# Altium integrated library TI_Logic_Specialty_Logic.IntLib: 2504 symbols (part 25 of 81)
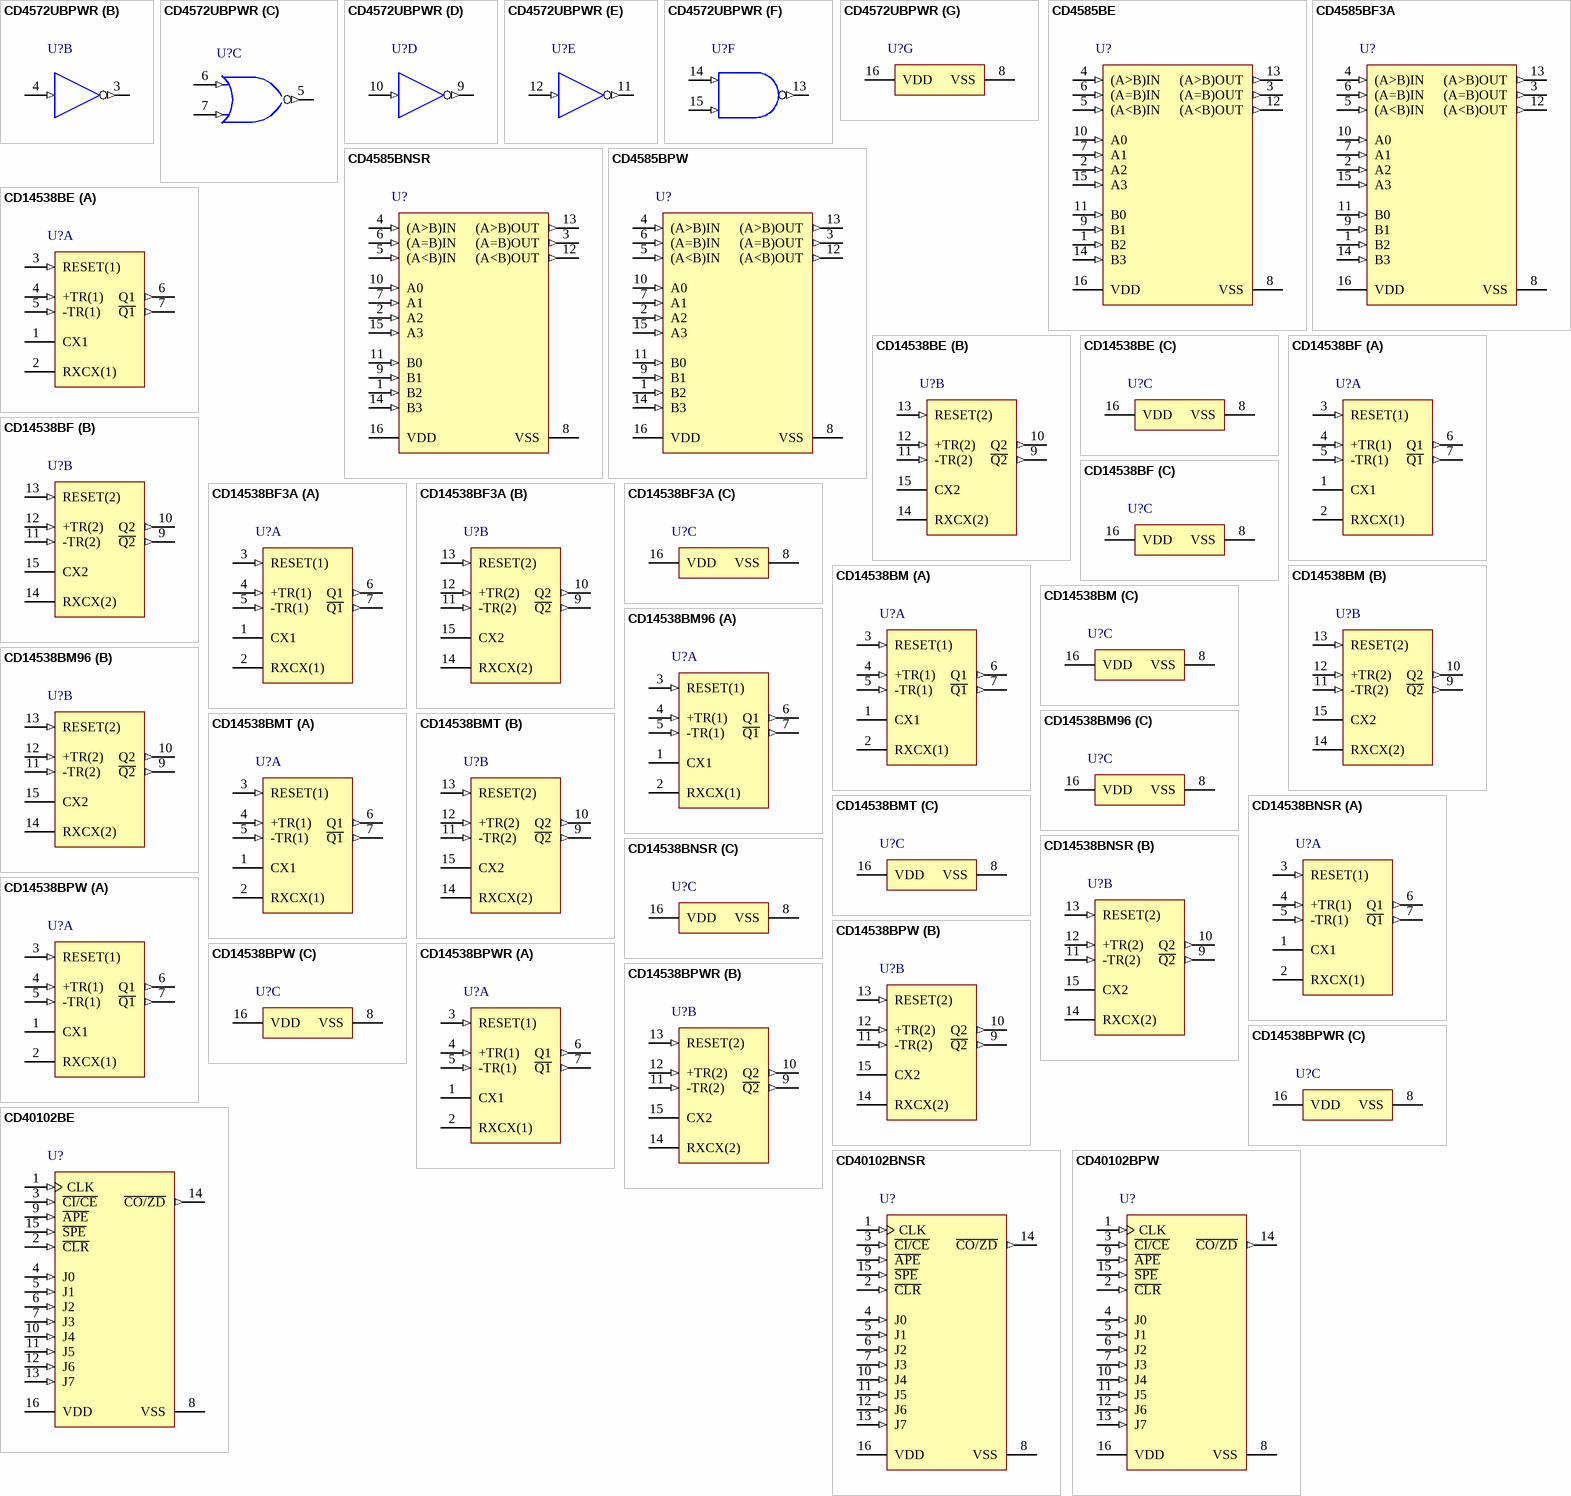
[diagram p128: symbols CD4572UBPWR to CD40102BPW]

## CD4585BF3A
designator U?
4-Bit Magnitude Comparators, J0016A, TUBE; Generic Part Number: CD4585B; Manufacturer: Texas Instruments; PartNumber: CD4585BF3A; VCC(Max)(V): 18; VCC(Min)(V): 3; Output Type: CMOS; ICC @ Nom Voltage(Max)(mA): 0.3; Bits(#): 4; F @ Nom Voltage(Max)(Mhz): 8; Rating: Military; Technology Family: CD4000; Voltage(Nom)(V): 10; Output Drive (IOL/IOH)(Max)(mA): 4/-4; tpd @ Nom Voltage(Max)(ns): 250; DatasheetVersion: SCHS091B; PackageReference: J0016A; Input Type: CMOS; Operating Temperature Range(C): -55 to 125; ComponentLink1Description: Manufacturer URL; ComponentLink1URL: http://www.ti.com/; ComponentLink2Description: Datasheet; ComponentLink2URL: http://www.ti.com/lit/ds/symlink/cd4585b.pdf
footprint J0016A (DIP, 16-Leads, Body 21.35x7.2mm, Pitch 2.54mm)
pins: 1 B2 (in), 2 A2 (in), 3 (A=B)OUT (out), 4 (A>B)IN (in), 5 (A<B)IN (in), 6 (A=B)IN (in), 7 A1 (in), 8 VSS (power), 9 B1 (in), 10 A0 (in), 11 B0 (in), 12 (A<B)OUT (out), 13 (A>B)OUT (out), 14 B3 (in), 15 A3 (in), 16 VDD (power)

## CD4585BNSR
designator U?
4-Bit Magnitude Comparators, NS0016A, LARGE T&R; Generic Part Number: CD4585B; Manufacturer: Texas Instruments; PartNumber: CD4585BNSR; VCC(Max)(V): 18; VCC(Min)(V): 3; Output Type: CMOS; ICC @ Nom Voltage(Max)(mA): 0.3; Bits(#): 4; F @ Nom Voltage(Max)(Mhz): 8; Rating: Military; Technology Family: CD4000; Voltage(Nom)(V): 10; Output Drive (IOL/IOH)(Max)(mA): 4/-4; tpd @ Nom Voltage(Max)(ns): 250; DatasheetVersion: SCHS091B; PackageReference: NS0016A; Supplier 1: Mouser; Supplier Part Number 1: 595-CD4585BNSR; Supplier 2: Digi-Key; Supplier Part Number 2: 296-29114-2-ND; Supplier 3: Digi-Key; Supplier Part Number 3: 296-29114-1-ND; Supplier 4: Digi-Key; Supplier Part Number 4: 296-29114-6-ND; Input Type: CMOS; Operating Temperature Range(C): -55 to 125; ComponentLink1Description: Manufacturer URL; ComponentLink1URL: http://www.ti.com/; ComponentLink2Description: Datasheet; ComponentLink2URL: http://www.ti.com/lit/ds/symlink/cd4585b.pdf
footprint NS0016A_N (SOIC,16-Leads,Body 10.5x5.6mm,Pitch 1.27mm,IPC Medium Density)
footprint NS0016A_M (SOIC,16-Leads,Body 10.5x5.6mm,Pitch 1.27mm,IPC Low Density)
footprint NS0016A_L (SOIC,16-Leads,Body 10.5x5.6mm,Pitch 1.27mm,IPC High Density)
pins: 1 B2 (in), 2 A2 (in), 3 (A=B)OUT (out), 4 (A>B)IN (in), 5 (A<B)IN (in), 6 (A=B)IN (in), 7 A1 (in), 8 VSS (power), 9 B1 (in), 10 A0 (in), 11 B0 (in), 12 (A<B)OUT (out), 13 (A>B)OUT (out), 14 B3 (in), 15 A3 (in), 16 VDD (power)

## CD4585BPW
designator U?
4-Bit Magnitude Comparators, PW0016A, TUBE; Generic Part Number: CD4585B; Manufacturer: Texas Instruments; PartNumber: CD4585BPW; VCC(Max)(V): 18; VCC(Min)(V): 3; Output Type: CMOS; ICC @ Nom Voltage(Max)(mA): 0.3; Bits(#): 4; F @ Nom Voltage(Max)(Mhz): 8; Rating: Military; Technology Family: CD4000; Voltage(Nom)(V): 10; Output Drive (IOL/IOH)(Max)(mA): 4/-4; tpd @ Nom Voltage(Max)(ns): 250; DatasheetVersion: SCHS091B; PackageReference: PW0016A; Supplier 1: Mouser; Supplier Part Number 1: 595-CD4585BPW; Supplier 2: Digi-Key; Supplier Part Number 2: 296-32939-5-ND; Input Type: CMOS; Operating Temperature Range(C): -55 to 125; ComponentLink1Description: Manufacturer URL; ComponentLink1URL: http://www.ti.com/; ComponentLink2Description: Datasheet; ComponentLink2URL: http://www.ti.com/lit/ds/symlink/cd4585b.pdf
footprint PW0016A_N (SOP, 16-Leads, Body 5.1x4.5mm, Pitch 0.65mm, IPC Medium Density)
footprint PW0016A_M (SOP, 16-Leads, Body 5.1x4.5mm, Pitch 0.65mm, IPC Low Density)
footprint PW0016A_L (SOP, 16-Leads, Body 5.1x4.5mm, Pitch 0.65mm, IPC High Density)
pins: 1 B2 (in), 2 A2 (in), 3 (A=B)OUT (out), 4 (A>B)IN (in), 5 (A<B)IN (in), 6 (A=B)IN (in), 7 A1 (in), 8 VSS (power), 9 B1 (in), 10 A0 (in), 11 B0 (in), 12 (A<B)OUT (out), 13 (A>B)OUT (out), 14 B3 (in), 15 A3 (in), 16 VDD (power)

## CD14538BE
designator U?
CMOS Dual Precision Monostable Multivibrator (125 C Operation), N0016A, TUBE; Generic Part Number: CD14538B; Manufacturer: Texas Instruments; PartNumber: CD14538BE; VCC(Max)(V): 18; VCC(Min)(V): 3; ICC @ Nom Voltage(Max)(mA): 0.3; Bits(#): 2; F @ Nom Voltage(Max)(Mhz): 8; Rating: Military; Voltage(Nom)(V): 10; Schmitt Trigger: No; Output Drive (IOL/IOH)(Max)(mA): 4/-4; tpd @ Nom Voltage(Max)(ns): 300; DatasheetVersion: SCHS093C; PackageReference: N0016A; Supplier 1: Mouser; Supplier Part Number 1: 595-CD14538BE; Supplier 2: Digi-Key; Supplier Part Number 2: 296-14074-5-ND; Output Type: CMOS; Input Type: CMOS; Operating Temperature Range(C): -55 to 125; Code_JEDEC: MS-001; ComponentLink1Description: Manufacturer URL; ComponentLink1URL: http://www.ti.com/; ComponentLink2Description: Datasheet; ComponentLink2URL: http://www.ti.com/lit/ds/symlink/cd14538b.pdf; ComponentLink3Description: Package Specification; ComponentLink3URL: http://www.ti.com/lit/ml/mpdi002c/mpdi002c.pdf
footprint N0016A (DIP, 16-Leads, Body 19.7x6.6mm, Pitch 2.54mm)
part A pins: 1 CX1, 2 RXCX(1), 3 RESET(1) (in), 4 +TR(1) (in), 5 -TR(1) (in), 6 Q1 (out), 7 ~{Q1} (out)
part B pins: 9 ~{Q2} (out), 10 Q2 (out), 11 -TR(2) (in), 12 +TR(2) (in), 13 RESET(2) (in), 14 RXCX(2), 15 CX2
part C pins: 8 VSS (power), 16 VDD (power)

## CD14538BF
designator U?
CMOS Dual Precision Monostable Multivibrator (125 C Operation), J0016A, TUBE; Generic Part Number: CD14538B; Manufacturer: Texas Instruments; PartNumber: CD14538BF; VCC(Max)(V): 18; VCC(Min)(V): 3; ICC @ Nom Voltage(Max)(mA): 0.3; Bits(#): 2; F @ Nom Voltage(Max)(Mhz): 8; Rating: Military; Voltage(Nom)(V): 10; Schmitt Trigger: No; Output Drive (IOL/IOH)(Max)(mA): 4/-4; tpd @ Nom Voltage(Max)(ns): 300; DatasheetVersion: SCHS093C; PackageReference: J0016A; Output Type: CMOS; Input Type: CMOS; Operating Temperature Range(C): -55 to 125; ComponentLink1Description: Manufacturer URL; ComponentLink1URL: http://www.ti.com/; ComponentLink2Description: Datasheet; ComponentLink2URL: http://www.ti.com/lit/ds/symlink/cd14538b.pdf; ComponentLink3Description: Package Specification; ComponentLink3URL: http://www.ti.com/lit/ml/mcer002d/mcer002d.pdf
footprint J0016A (DIP, 16-Leads, Body 21.35x7.2mm, Pitch 2.54mm)
part A pins: 1 CX1, 2 RXCX(1), 3 RESET(1) (in), 4 +TR(1) (in), 5 -TR(1) (in), 6 Q1 (out), 7 ~{Q1} (out)
part B pins: 9 ~{Q2} (out), 10 Q2 (out), 11 -TR(2) (in), 12 +TR(2) (in), 13 RESET(2) (in), 14 RXCX(2), 15 CX2
part C pins: 8 VSS (power), 16 VDD (power)

## CD14538BF3A
designator U?
CMOS Dual Precision Monostable Multivibrator (125 C Operation), J0016A, TUBE; Generic Part Number: CD14538B; Manufacturer: Texas Instruments; PartNumber: CD14538BF3A; VCC(Max)(V): 18; VCC(Min)(V): 3; ICC @ Nom Voltage(Max)(mA): 0.3; Bits(#): 2; F @ Nom Voltage(Max)(Mhz): 8; Rating: Military; Voltage(Nom)(V): 10; Schmitt Trigger: No; Output Drive (IOL/IOH)(Max)(mA): 4/-4; tpd @ Nom Voltage(Max)(ns): 300; DatasheetVersion: SCHS093C; PackageReference: J0016A; Output Type: CMOS; Input Type: CMOS; Operating Temperature Range(C): -55 to 125; ComponentLink1Description: Manufacturer URL; ComponentLink1URL: http://www.ti.com/; ComponentLink2Description: Datasheet; ComponentLink2URL: http://www.ti.com/lit/ds/symlink/cd14538b.pdf; ComponentLink3Description: Package Specification; ComponentLink3URL: http://www.ti.com/lit/ml/mcer002d/mcer002d.pdf
footprint J0016A (DIP, 16-Leads, Body 21.35x7.2mm, Pitch 2.54mm)
part A pins: 1 CX1, 2 RXCX(1), 3 RESET(1) (in), 4 +TR(1) (in), 5 -TR(1) (in), 6 Q1 (out), 7 ~{Q1} (out)
part B pins: 9 ~{Q2} (out), 10 Q2 (out), 11 -TR(2) (in), 12 +TR(2) (in), 13 RESET(2) (in), 14 RXCX(2), 15 CX2
part C pins: 8 VSS (power), 16 VDD (power)

## CD14538BM
designator U?
CMOS Dual Precision Monostable Multivibrator (125 C Operation), D0016A, TUBE; Generic Part Number: CD14538B; Manufacturer: Texas Instruments; PartNumber: CD14538BM; VCC(Max)(V): 18; VCC(Min)(V): 3; ICC @ Nom Voltage(Max)(mA): 0.3; Bits(#): 2; F @ Nom Voltage(Max)(Mhz): 8; Rating: Military; Voltage(Nom)(V): 10; Schmitt Trigger: No; Output Drive (IOL/IOH)(Max)(mA): 4/-4; tpd @ Nom Voltage(Max)(ns): 300; DatasheetVersion: SCHS093C; PackageReference: D0016A; Supplier 1: Mouser; Supplier Part Number 1: 595-CD14538BM; Supplier 2: Digi-Key; Supplier Part Number 2: 296-32849-5-ND; Output Type: CMOS; Input Type: CMOS; Operating Temperature Range(C): -55 to 125; Code_JEDEC: MS-012 variation AC; ComponentLink1Description: Manufacturer URL; ComponentLink1URL: http://www.ti.com/; ComponentLink2Description: Datasheet; ComponentLink2URL: http://www.ti.com/lit/ds/symlink/cd14538b.pdf; ComponentLink3Description: Package Specification; ComponentLink3URL: http://www.ti.com/lit/ml/mpds178g/mpds178g.pdf
footprint D0016A_N (SOIC, 16-Leads, Body 10x4mm, Pitch 1.27mm, IPC Medium Density)
footprint D0016A_M (SOIC, 16-Leads, Body 10x4mm, Pitch 1.27mm, IPC Low Density)
footprint D0016A_L (SOIC, 16-Leads, Body 10x4mm, Pitch 1.27mm, IPC High Density)
part A pins: 1 CX1, 2 RXCX(1), 3 RESET(1) (in), 4 +TR(1) (in), 5 -TR(1) (in), 6 Q1 (out), 7 ~{Q1} (out)
part B pins: 9 ~{Q2} (out), 10 Q2 (out), 11 -TR(2) (in), 12 +TR(2) (in), 13 RESET(2) (in), 14 RXCX(2), 15 CX2
part C pins: 8 VSS (power), 16 VDD (power)

## CD14538BM96
designator U?
CMOS Dual Precision Monostable Multivibrator (125 C Operation), D0016A, LARGE T&R; Generic Part Number: CD14538B; Manufacturer: Texas Instruments; PartNumber: CD14538BM96; VCC(Max)(V): 18; VCC(Min)(V): 3; ICC @ Nom Voltage(Max)(mA): 0.3; Bits(#): 2; F @ Nom Voltage(Max)(Mhz): 8; Rating: Military; Voltage(Nom)(V): 10; Schmitt Trigger: No; Output Drive (IOL/IOH)(Max)(mA): 4/-4; tpd @ Nom Voltage(Max)(ns): 300; DatasheetVersion: SCHS093C; PackageReference: D0016A; Supplier 1: Mouser; Supplier Part Number 1: 595-CD14538BM96; Supplier 2: Digi-Key; Supplier Part Number 2: 296-31477-2-ND; Supplier 3: Digi-Key; Supplier Part Number 3: 296-31477-1-ND; Supplier 4: Digi-Key; Supplier Part Number 4: 296-31477-6-ND; Output Type: CMOS; Input Type: CMOS; Operating Temperature Range(C): -55 to 125; Code_JEDEC: MS-012 variation AC; ComponentLink1Description: Manufacturer URL; ComponentLink1URL: http://www.ti.com/; ComponentLink2Description: Datasheet; ComponentLink2URL: http://www.ti.com/lit/ds/symlink/cd14538b.pdf; ComponentLink3Description: Package Specification; ComponentLink3URL: http://www.ti.com/lit/ml/mpds178g/mpds178g.pdf
footprint D0016A_N (SOIC, 16-Leads, Body 10x4mm, Pitch 1.27mm, IPC Medium Density)
footprint D0016A_M (SOIC, 16-Leads, Body 10x4mm, Pitch 1.27mm, IPC Low Density)
footprint D0016A_L (SOIC, 16-Leads, Body 10x4mm, Pitch 1.27mm, IPC High Density)
part A pins: 1 CX1, 2 RXCX(1), 3 RESET(1) (in), 4 +TR(1) (in), 5 -TR(1) (in), 6 Q1 (out), 7 ~{Q1} (out)
part B pins: 9 ~{Q2} (out), 10 Q2 (out), 11 -TR(2) (in), 12 +TR(2) (in), 13 RESET(2) (in), 14 RXCX(2), 15 CX2
part C pins: 8 VSS (power), 16 VDD (power)

## CD14538BMT
designator U?
CMOS Dual Precision Monostable Multivibrator (125 C Operation), D0016A, SMALL T&R; Generic Part Number: CD14538B; Manufacturer: Texas Instruments; PartNumber: CD14538BMT; VCC(Max)(V): 18; VCC(Min)(V): 3; ICC @ Nom Voltage(Max)(mA): 0.3; Bits(#): 2; F @ Nom Voltage(Max)(Mhz): 8; Rating: Military; Voltage(Nom)(V): 10; Schmitt Trigger: No; Output Drive (IOL/IOH)(Max)(mA): 4/-4; tpd @ Nom Voltage(Max)(ns): 300; DatasheetVersion: SCHS093C; PackageReference: D0016A; Supplier 1: Mouser; Supplier Part Number 1: 595-CD14538BMT; Supplier 2: Digi-Key; Supplier Part Number 2: CD14538BMT-ND; Output Type: CMOS; Input Type: CMOS; Operating Temperature Range(C): -55 to 125; Code_JEDEC: MS-012 variation AC; ComponentLink1Description: Manufacturer URL; ComponentLink1URL: http://www.ti.com/; ComponentLink2Description: Datasheet; ComponentLink2URL: http://www.ti.com/lit/ds/symlink/cd14538b.pdf; ComponentLink3Description: Package Specification; ComponentLink3URL: http://www.ti.com/lit/ml/mpds178g/mpds178g.pdf
footprint D0016A_N (SOIC, 16-Leads, Body 10x4mm, Pitch 1.27mm, IPC Medium Density)
footprint D0016A_M (SOIC, 16-Leads, Body 10x4mm, Pitch 1.27mm, IPC Low Density)
footprint D0016A_L (SOIC, 16-Leads, Body 10x4mm, Pitch 1.27mm, IPC High Density)
part A pins: 1 CX1, 2 RXCX(1), 3 RESET(1) (in), 4 +TR(1) (in), 5 -TR(1) (in), 6 Q1 (out), 7 ~{Q1} (out)
part B pins: 9 ~{Q2} (out), 10 Q2 (out), 11 -TR(2) (in), 12 +TR(2) (in), 13 RESET(2) (in), 14 RXCX(2), 15 CX2
part C pins: 8 VSS (power), 16 VDD (power)

## CD14538BNSR
designator U?
CMOS Dual Precision Monostable Multivibrator (125 C Operation), NS0016A, LARGE T&R; Generic Part Number: CD14538B; Manufacturer: Texas Instruments; PartNumber: CD14538BNSR; VCC(Max)(V): 18; VCC(Min)(V): 3; ICC @ Nom Voltage(Max)(mA): 0.3; Bits(#): 2; F @ Nom Voltage(Max)(Mhz): 8; Rating: Military; Voltage(Nom)(V): 10; Schmitt Trigger: No; Output Drive (IOL/IOH)(Max)(mA): 4/-4; tpd @ Nom Voltage(Max)(ns): 300; DatasheetVersion: SCHS093C; PackageReference: NS0016A; Supplier 1: Mouser; Supplier Part Number 1: 595-CD14538BNSR; Supplier 2: Digi-Key; Supplier Part Number 2: 296-14075-2-ND; Supplier 3: Digi-Key; Supplier Part Number 3: 296-14075-1-ND; Supplier 4: Digi-Key; Supplier Part Number 4: 296-14075-6-ND; Output Type: CMOS; Input Type: CMOS; Operating Temperature Range(C): -55 to 125; ComponentLink1Description: Manufacturer URL; ComponentLink1URL: http://www.ti.com/; ComponentLink2Description: Datasheet; ComponentLink2URL: http://www.ti.com/lit/ds/symlink/cd14538b.pdf; ComponentLink3Description: Package Specification; ComponentLink3URL: http://www.ti.com/lit/ml/msop002a/msop002a.pdf
footprint NS0016A_N (SOIC,16-Leads,Body 10.5x5.6mm,Pitch 1.27mm,IPC Medium Density)
footprint NS0016A_M (SOIC,16-Leads,Body 10.5x5.6mm,Pitch 1.27mm,IPC Low Density)
footprint NS0016A_L (SOIC,16-Leads,Body 10.5x5.6mm,Pitch 1.27mm,IPC High Density)
part A pins: 1 CX1, 2 RXCX(1), 3 RESET(1) (in), 4 +TR(1) (in), 5 -TR(1) (in), 6 Q1 (out), 7 ~{Q1} (out)
part B pins: 9 ~{Q2} (out), 10 Q2 (out), 11 -TR(2) (in), 12 +TR(2) (in), 13 RESET(2) (in), 14 RXCX(2), 15 CX2
part C pins: 8 VSS (power), 16 VDD (power)

## CD14538BPW
designator U?
CMOS Dual Precision Monostable Multivibrator (125 C Operation), PW0016A, TUBE; Generic Part Number: CD14538B; Manufacturer: Texas Instruments; PartNumber: CD14538BPW; VCC(Max)(V): 18; VCC(Min)(V): 3; ICC @ Nom Voltage(Max)(mA): 0.3; Bits(#): 2; F @ Nom Voltage(Max)(Mhz): 8; Rating: Military; Voltage(Nom)(V): 10; Schmitt Trigger: No; Output Drive (IOL/IOH)(Max)(mA): 4/-4; tpd @ Nom Voltage(Max)(ns): 300; DatasheetVersion: SCHS093C; PackageReference: PW0016A; Supplier 1: Mouser; Supplier Part Number 1: 595-CD14538BPW; Supplier 2: Digi-Key; Supplier Part Number 2: 296-32850-5-ND; Output Type: CMOS; Input Type: CMOS; Operating Temperature Range(C): -55 to 125; Code_JEDEC: MO-153; ComponentLink1Description: Manufacturer URL; ComponentLink1URL: http://www.ti.com/; ComponentLink2Description: Datasheet; ComponentLink2URL: http://www.ti.com/lit/ds/symlink/cd14538b.pdf; ComponentLink3Description: Package Specification; ComponentLink3URL: http://www.ti.com/lit/ml/mpds361/mpds361.pdf
footprint PW0016A_N (SOP, 16-Leads, Body 5.1x4.5mm, Pitch 0.65mm, IPC Medium Density)
footprint PW0016A_M (SOP, 16-Leads, Body 5.1x4.5mm, Pitch 0.65mm, IPC Low Density)
footprint PW0016A_L (SOP, 16-Leads, Body 5.1x4.5mm, Pitch 0.65mm, IPC High Density)
part A pins: 1 CX1, 2 RXCX(1), 3 RESET(1) (in), 4 +TR(1) (in), 5 -TR(1) (in), 6 Q1 (out), 7 ~{Q1} (out)
part B pins: 9 ~{Q2} (out), 10 Q2 (out), 11 -TR(2) (in), 12 +TR(2) (in), 13 RESET(2) (in), 14 RXCX(2), 15 CX2
part C pins: 8 VSS (power), 16 VDD (power)

## CD14538BPWR
designator U?
CMOS Dual Precision Monostable Multivibrator (125 C Operation), PW0016A, LARGE T&R; Generic Part Number: CD14538B; Manufacturer: Texas Instruments; PartNumber: CD14538BPWR; VCC(Max)(V): 18; VCC(Min)(V): 3; ICC @ Nom Voltage(Max)(mA): 0.3; Bits(#): 2; F @ Nom Voltage(Max)(Mhz): 8; Rating: Military; Voltage(Nom)(V): 10; Schmitt Trigger: No; Output Drive (IOL/IOH)(Max)(mA): 4/-4; tpd @ Nom Voltage(Max)(ns): 300; DatasheetVersion: SCHS093C; PackageReference: PW0016A; Supplier 1: Mouser; Supplier Part Number 1: 595-CD14538BPWR; Supplier 2: Digi-Key; Supplier Part Number 2: 296-12018-2-ND; Supplier 3: Digi-Key; Supplier Part Number 3: 296-12018-1-ND; Supplier 4: Digi-Key; Supplier Part Number 4: 296-12018-6-ND; Output Type: CMOS; Input Type: CMOS; Operating Temperature Range(C): -55 to 125; Code_JEDEC: MO-153; ComponentLink1Description: Manufacturer URL; ComponentLink1URL: http://www.ti.com/; ComponentLink2Description: Datasheet; ComponentLink2URL: http://www.ti.com/lit/ds/symlink/cd14538b.pdf; ComponentLink3Description: Package Specification; ComponentLink3URL: http://www.ti.com/lit/ml/mpds361/mpds361.pdf
footprint PW0016A_N (SOP, 16-Leads, Body 5.1x4.5mm, Pitch 0.65mm, IPC Medium Density)
footprint PW0016A_M (SOP, 16-Leads, Body 5.1x4.5mm, Pitch 0.65mm, IPC Low Density)
footprint PW0016A_L (SOP, 16-Leads, Body 5.1x4.5mm, Pitch 0.65mm, IPC High Density)
part A pins: 1 CX1, 2 RXCX(1), 3 RESET(1) (in), 4 +TR(1) (in), 5 -TR(1) (in), 6 Q1 (out), 7 ~{Q1} (out)
part B pins: 9 ~{Q2} (out), 10 Q2 (out), 11 -TR(2) (in), 12 +TR(2) (in), 13 RESET(2) (in), 14 RXCX(2), 15 CX2
part C pins: 8 VSS (power), 16 VDD (power)

## CD40102BE
designator U?
CMOS 8-Stage Presettable 2-Decade BCD Synchronous Down Counter, N0016A, TUBE; Generic Part Number: CD40102B; Manufacturer: Texas Instruments; PartNumber: CD40102BE; VCC(Max)(V): 18; VCC(Min)(V): 3; Inputs: 1; ICC @ Nom Voltage(Max)(mA): 0.03; F @ Nom Voltage(Max)(Mhz): 8; Rating: Catalog; Technology Family: CD4000; Voltage(Nom)(V): 5,10,15; Schmitt Trigger: No; Output Drive (IOL/IOH)(Max)(mA): 1.5/-1.5; tpd @ Nom Voltage(Max)(ns): 260; DatasheetVersion: SCHS095B; PackageReference: N0016A; Supplier 1: Mouser; Supplier Part Number 1: 595-CD40102BE; Supplier 2: Digi-Key; Supplier Part Number 2: 296-14079-5-ND; Output Type: CMOS; Function: Counter; Input Type: CMOS; Bits(#): 1; Operating Temperature Range(C): -55 to 125; Type: Decade; Code_JEDEC: MS-001; ComponentLink1Description: Manufacturer URL; ComponentLink1URL: http://www.ti.com/; ComponentLink2Description: Datasheet; ComponentLink2URL: http://www.ti.com/lit/ds/symlink/cd40102b.pdf; ComponentLink3Description: Package Specification; ComponentLink3URL: http://www.ti.com/lit/ml/mpdi002c/mpdi002c.pdf
footprint N0016A (DIP, 16-Leads, Body 19.7x6.6mm, Pitch 2.54mm)
pins: 1 CLK (in), 2 ~{CLR} (in), 3 ~{CI/CE} (in), 4 J0 (in), 5 J1 (in), 6 J2 (in), 7 J3 (in), 8 VSS (power), 9 ~{APE} (in), 10 J4 (in), 11 J5 (in), 12 J6 (in), 13 J7 (in), 14 ~{CO/ZD} (out), 15 ~{SPE} (in), 16 VDD (power)

## CD40102BNSR
designator U?
CMOS 8-Stage Presettable 2-Decade BCD Synchronous Down Counter, NS0016A, LARGE T&R; Generic Part Number: CD40102B; Manufacturer: Texas Instruments; PartNumber: CD40102BNSR; VCC(Max)(V): 18; VCC(Min)(V): 3; Inputs: 1; ICC @ Nom Voltage(Max)(mA): 0.03; F @ Nom Voltage(Max)(Mhz): 8; Rating: Catalog; Technology Family: CD4000; Voltage(Nom)(V): 5,10,15; Schmitt Trigger: No; Output Drive (IOL/IOH)(Max)(mA): 1.5/-1.5; tpd @ Nom Voltage(Max)(ns): 260; DatasheetVersion: SCHS095B; PackageReference: NS0016A; Supplier 1: Mouser; Supplier Part Number 1: 595-CD40102BNSR; Supplier 2: Digi-Key; Supplier Part Number 2: CD40102BNSR-ND; Output Type: CMOS; Function: Counter; Input Type: CMOS; Bits(#): 1; Operating Temperature Range(C): -55 to 125; Type: Decade; ComponentLink1Description: Manufacturer URL; ComponentLink1URL: http://www.ti.com/; ComponentLink2Description: Datasheet; ComponentLink2URL: http://www.ti.com/lit/ds/symlink/cd40102b.pdf; ComponentLink3Description: Package Specification; ComponentLink3URL: http://www.ti.com/lit/ml/msop002a/msop002a.pdf
footprint NS0016A_N (SOIC,16-Leads,Body 10.5x5.6mm,Pitch 1.27mm,IPC Medium Density)
footprint NS0016A_M (SOIC,16-Leads,Body 10.5x5.6mm,Pitch 1.27mm,IPC Low Density)
footprint NS0016A_L (SOIC,16-Leads,Body 10.5x5.6mm,Pitch 1.27mm,IPC High Density)
pins: 1 CLK (in), 2 ~{CLR} (in), 3 ~{CI/CE} (in), 4 J0 (in), 5 J1 (in), 6 J2 (in), 7 J3 (in), 8 VSS (power), 9 ~{APE} (in), 10 J4 (in), 11 J5 (in), 12 J6 (in), 13 J7 (in), 14 ~{CO/ZD} (out), 15 ~{SPE} (in), 16 VDD (power)

## CD40102BPW
designator U?
CMOS 8-Stage Presettable 2-Decade BCD Synchronous Down Counter, PW0016A, TUBE; Generic Part Number: CD40102B; Manufacturer: Texas Instruments; PartNumber: CD40102BPW; VCC(Max)(V): 18; VCC(Min)(V): 3; Inputs: 1; ICC @ Nom Voltage(Max)(mA): 0.03; F @ Nom Voltage(Max)(Mhz): 8; Rating: Catalog; Technology Family: CD4000; Voltage(Nom)(V): 5,10,15; Schmitt Trigger: No; Output Drive (IOL/IOH)(Max)(mA): 1.5/-1.5; tpd @ Nom Voltage(Max)(ns): 260; DatasheetVersion: SCHS095B; PackageReference: PW0016A; Supplier 1: Mouser; Supplier Part Number 1: 595-CD40102BPW; Supplier 2: Digi-Key; Supplier Part Number 2: 296-32856-5-ND; Output Type: CMOS; Function: Counter; Input Type: CMOS; Bits(#): 1; Operating Temperature Range(C): -55 to 125; Type: Decade; Code_JEDEC: MO-153; ComponentLink1Description: Manufacturer URL; ComponentLink1URL: http://www.ti.com/; ComponentLink2Description: Datasheet; ComponentLink2URL: http://www.ti.com/lit/ds/symlink/cd40102b.pdf; ComponentLink3Description: Package Specification; ComponentLink3URL: http://www.ti.com/lit/ml/mpds361/mpds361.pdf
footprint PW0016A_N (SOP, 16-Leads, Body 5.1x4.5mm, Pitch 0.65mm, IPC Medium Density)
footprint PW0016A_M (SOP, 16-Leads, Body 5.1x4.5mm, Pitch 0.65mm, IPC Low Density)
footprint PW0016A_L (SOP, 16-Leads, Body 5.1x4.5mm, Pitch 0.65mm, IPC High Density)
pins: 1 CLK (in), 2 ~{CLR} (in), 3 ~{CI/CE} (in), 4 J0 (in), 5 J1 (in), 6 J2 (in), 7 J3 (in), 8 VSS (power), 9 ~{APE} (in), 10 J4 (in), 11 J5 (in), 12 J6 (in), 13 J7 (in), 14 ~{CO/ZD} (out), 15 ~{SPE} (in), 16 VDD (power)

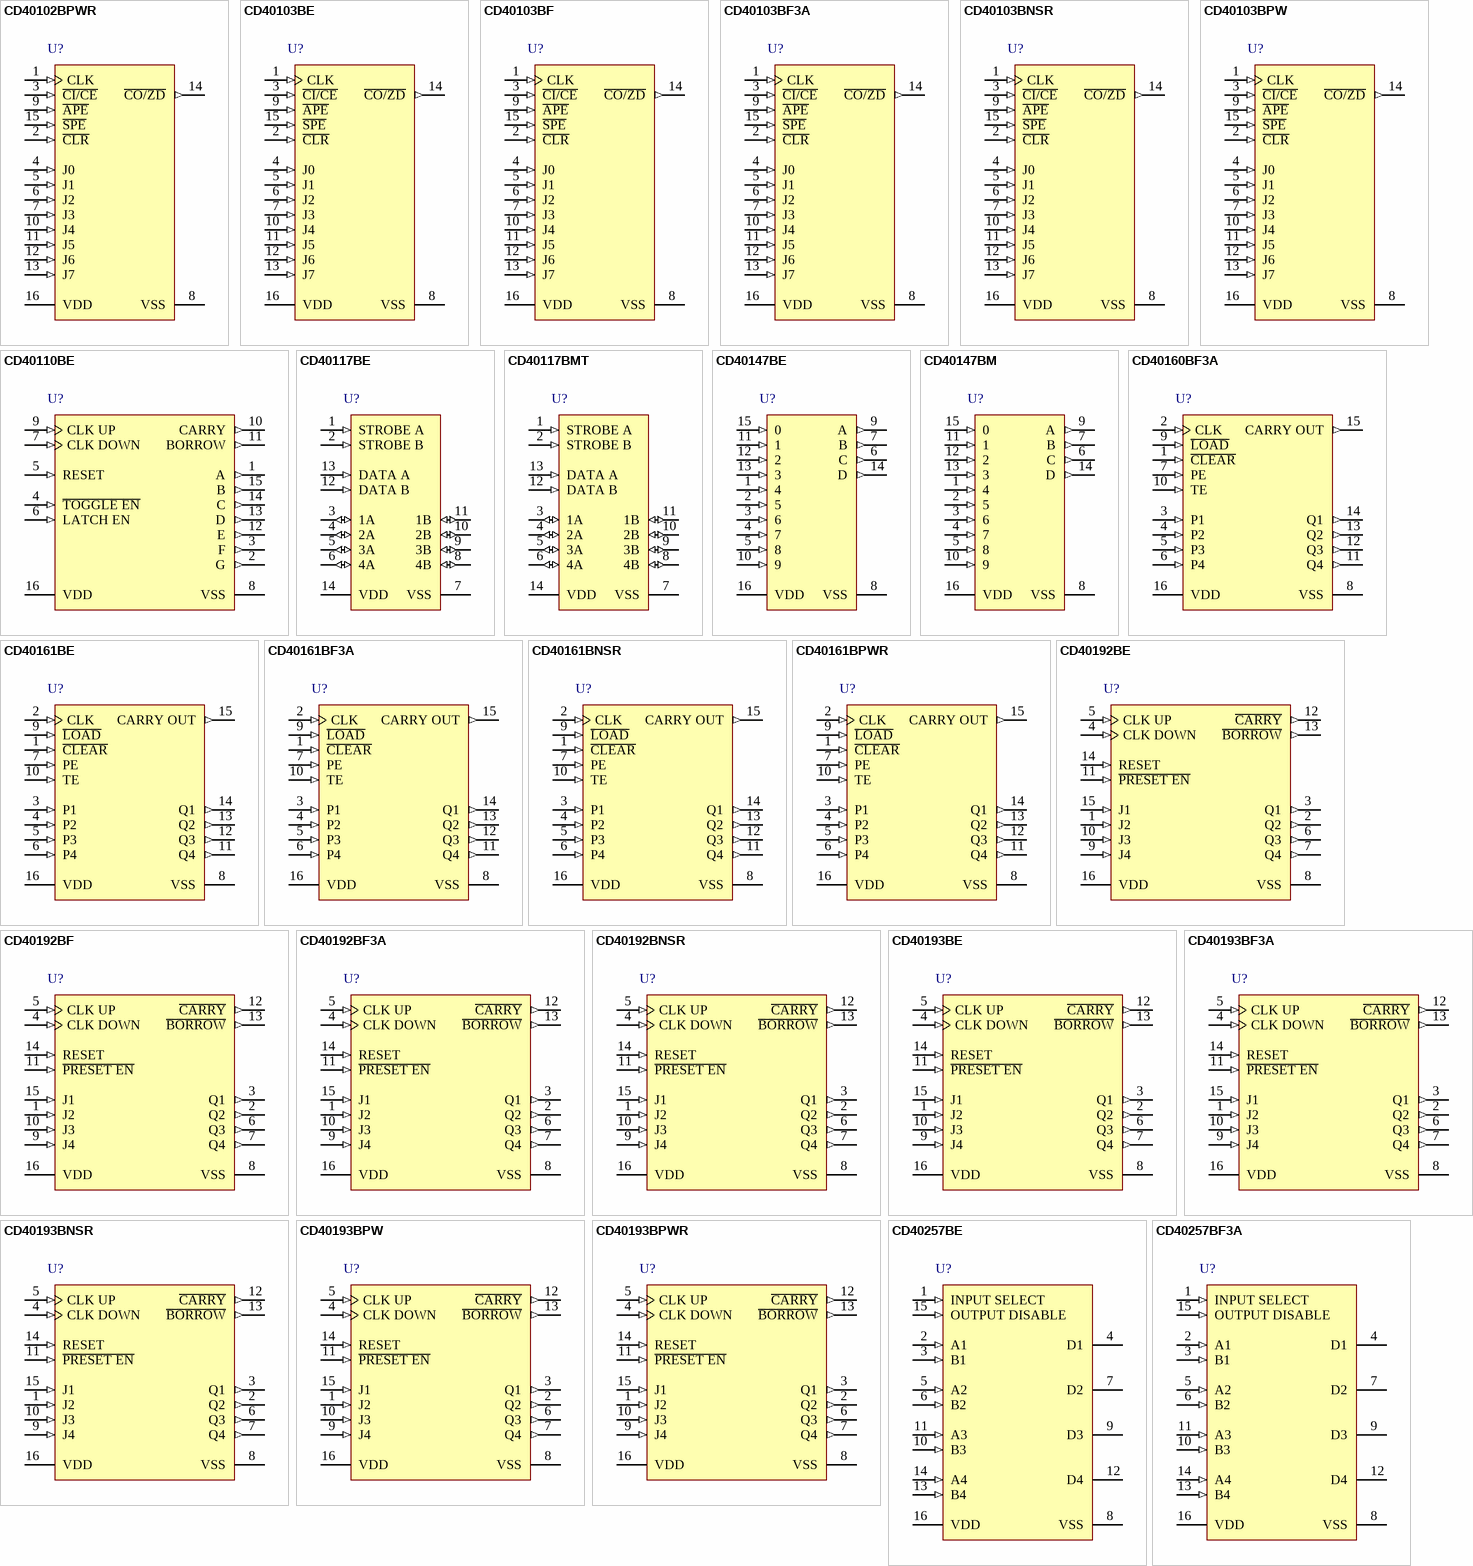
[diagram p34: symbols CD40102BPWR to CD40257BF3A]

## CD40102BPWR
designator U?
CMOS 8-Stage Presettable 2-Decade BCD Synchronous Down Counter, PW0016A, LARGE T&R; Generic Part Number: CD40102B; Manufacturer: Texas Instruments; PartNumber: CD40102BPWR; VCC(Max)(V): 18; VCC(Min)(V): 3; Inputs: 1; ICC @ Nom Voltage(Max)(mA): 0.03; F @ Nom Voltage(Max)(Mhz): 8; Rating: Catalog; Technology Family: CD4000; Voltage(Nom)(V): 5,10,15; Schmitt Trigger: No; Output Drive (IOL/IOH)(Max)(mA): 1.5/-1.5; tpd @ Nom Voltage(Max)(ns): 260; DatasheetVersion: SCHS095B; PackageReference: PW0016A; Supplier 1: Mouser; Supplier Part Number 1: 595-CD40102BPWR; Supplier 2: Digi-Key; Supplier Part Number 2: 296-14241-2-ND; Supplier 3: Digi-Key; Supplier Part Number 3: 296-14241-1-ND; Supplier 4: Digi-Key; Supplier Part Number 4: 296-14241-6-ND; Output Type: CMOS; Function: Counter; Input Type: CMOS; Bits(#): 1; Operating Temperature Range(C): -55 to 125; Type: Decade; Code_JEDEC: MO-153; ComponentLink1Description: Manufacturer URL; ComponentLink1URL: http://www.ti.com/; ComponentLink2Description: Datasheet; ComponentLink2URL: http://www.ti.com/lit/ds/symlink/cd40102b.pdf; ComponentLink3Description: Package Specification; ComponentLink3URL: http://www.ti.com/lit/ml/mpds361/mpds361.pdf
footprint PW0016A_N (SOP, 16-Leads, Body 5.1x4.5mm, Pitch 0.65mm, IPC Medium Density)
footprint PW0016A_M (SOP, 16-Leads, Body 5.1x4.5mm, Pitch 0.65mm, IPC Low Density)
footprint PW0016A_L (SOP, 16-Leads, Body 5.1x4.5mm, Pitch 0.65mm, IPC High Density)
pins: 1 CLK (in), 2 ~{CLR} (in), 3 ~{CI/CE} (in), 4 J0 (in), 5 J1 (in), 6 J2 (in), 7 J3 (in), 8 VSS (power), 9 ~{APE} (in), 10 J4 (in), 11 J5 (in), 12 J6 (in), 13 J7 (in), 14 ~{CO/ZD} (out), 15 ~{SPE} (in), 16 VDD (power)

## CD40103BE
designator U?
CMOS 8-Stage Presettable 8-Bit Binary Synchronous Down Counter, N0016A, TUBE; Generic Part Number: CD40103B; Manufacturer: Texas Instruments; PartNumber: CD40103BE; VCC(Max)(V): 18; VCC(Min)(V): 3; Inputs: 1; ICC @ Nom Voltage(Max)(mA): 0.03; F @ Nom Voltage(Max)(Mhz): 8; Rating: Catalog; Technology Family: CD4000; Voltage(Nom)(V): 5,10,15; Schmitt Trigger: No; Output Drive (IOL/IOH)(Max)(mA): 1.5/-1.5; tpd @ Nom Voltage(Max)(ns): 260; DatasheetVersion: SCHS095B; PackageReference: N0016A; Supplier 1: Mouser; Supplier Part Number 1: 595-CD40103BE; Supplier 2: Digi-Key; Supplier Part Number 2: 296-14080-5-ND; Output Type: CMOS; Function: Counter; Input Type: CMOS; Bits(#): 1; Operating Temperature Range(C): -55 to 125; Type: Binary; Code_JEDEC: MS-001; ComponentLink1Description: Manufacturer URL; ComponentLink1URL: http://www.ti.com/; ComponentLink2Description: Datasheet; ComponentLink2URL: http://www.ti.com/lit/ds/symlink/cd40103b.pdf; ComponentLink3Description: Package Specification; ComponentLink3URL: http://www.ti.com/lit/ml/mpdi002c/mpdi002c.pdf
footprint N0016A (DIP, 16-Leads, Body 19.7x6.6mm, Pitch 2.54mm)
pins: 1 CLK (in), 2 ~{CLR} (in), 3 ~{CI/CE} (in), 4 J0 (in), 5 J1 (in), 6 J2 (in), 7 J3 (in), 8 VSS (power), 9 ~{APE} (in), 10 J4 (in), 11 J5 (in), 12 J6 (in), 13 J7 (in), 14 ~{CO/ZD} (out), 15 ~{SPE} (in), 16 VDD (power)

## CD40103BF
designator U?
CMOS 8-Stage Presettable 8-Bit Binary Synchronous Down Counter, J0016A, TUBE; Generic Part Number: CD40103B-MIL; Manufacturer: Texas Instruments; PartNumber: CD40103BF; VCC(Max)(V): 18; VCC(Min)(V): 3; Inputs: 1; ICC @ Nom Voltage(Max)(mA): 0.03; F @ Nom Voltage(Max)(Mhz): 8; Rating: Military; Technology Family: CD4000; Voltage(Nom)(V): 10; Schmitt Trigger: No; Output Drive (IOL/IOH)(Max)(mA): 1.5/-1.5; tpd @ Nom Voltage(Max)(ns): 260; DatasheetVersion: SCHS095B; PackageReference: J0016A; Output Type: CMOS; Function: Counter; Input Type: CMOS; Bits(#): 1; Operating Temperature Range(C): -55 to 125; Type: Binary; ComponentLink1Description: Manufacturer URL; ComponentLink1URL: http://www.ti.com/; ComponentLink2Description: Datasheet; ComponentLink2URL: http://www.ti.com/lit/ds/symlink/cd40103b-mil.pdf; ComponentLink3Description: Package Specification; ComponentLink3URL: http://www.ti.com/lit/ml/mcer002d/mcer002d.pdf
footprint J0016A (DIP, 16-Leads, Body 21.35x7.2mm, Pitch 2.54mm)
pins: 1 CLK (in), 2 ~{CLR} (in), 3 ~{CI/CE} (in), 4 J0 (in), 5 J1 (in), 6 J2 (in), 7 J3 (in), 8 VSS (power), 9 ~{APE} (in), 10 J4 (in), 11 J5 (in), 12 J6 (in), 13 J7 (in), 14 ~{CO/ZD} (out), 15 ~{SPE} (in), 16 VDD (power)

## CD40103BF3A
designator U?
CMOS 8-Stage Presettable 8-Bit Binary Synchronous Down Counter, J0016A, TUBE; Generic Part Number: CD40103B-MIL; Manufacturer: Texas Instruments; PartNumber: CD40103BF3A; VCC(Max)(V): 18; VCC(Min)(V): 3; Inputs: 1; ICC @ Nom Voltage(Max)(mA): 0.03; F @ Nom Voltage(Max)(Mhz): 8; Rating: Military; Technology Family: CD4000; Voltage(Nom)(V): 10; Schmitt Trigger: No; Output Drive (IOL/IOH)(Max)(mA): 1.5/-1.5; tpd @ Nom Voltage(Max)(ns): 260; DatasheetVersion: SCHS095B; PackageReference: J0016A; Output Type: CMOS; Function: Counter; Input Type: CMOS; Bits(#): 1; Operating Temperature Range(C): -55 to 125; Type: Binary; ComponentLink1Description: Manufacturer URL; ComponentLink1URL: http://www.ti.com/; ComponentLink2Description: Datasheet; ComponentLink2URL: http://www.ti.com/lit/ds/symlink/cd40103b-mil.pdf; ComponentLink3Description: Package Specification; ComponentLink3URL: http://www.ti.com/lit/ml/mcer002d/mcer002d.pdf
footprint J0016A (DIP, 16-Leads, Body 21.35x7.2mm, Pitch 2.54mm)
pins: 1 CLK (in), 2 ~{CLR} (in), 3 ~{CI/CE} (in), 4 J0 (in), 5 J1 (in), 6 J2 (in), 7 J3 (in), 8 VSS (power), 9 ~{APE} (in), 10 J4 (in), 11 J5 (in), 12 J6 (in), 13 J7 (in), 14 ~{CO/ZD} (out), 15 ~{SPE} (in), 16 VDD (power)

## CD40103BNSR
designator U?
CMOS 8-Stage Presettable 8-Bit Binary Synchronous Down Counter, NS0016A, LARGE T&R; Generic Part Number: CD40103B; Manufacturer: Texas Instruments; PartNumber: CD40103BNSR; VCC(Max)(V): 18; VCC(Min)(V): 3; Inputs: 1; ICC @ Nom Voltage(Max)(mA): 0.03; F @ Nom Voltage(Max)(Mhz): 8; Rating: Catalog; Technology Family: CD4000; Voltage(Nom)(V): 5,10,15; Schmitt Trigger: No; Output Drive (IOL/IOH)(Max)(mA): 1.5/-1.5; tpd @ Nom Voltage(Max)(ns): 260; DatasheetVersion: SCHS095B; PackageReference: NS0016A; Supplier 1: Mouser; Supplier Part Number 1: 595-CD40103BNSR; Supplier 2: Digi-Key; Supplier Part Number 2: 296-29360-2-ND; Supplier 3: Digi-Key; Supplier Part Number 3: 296-29360-1-ND; Supplier 4: Digi-Key; Supplier Part Number 4: 296-29360-6-ND; Output Type: CMOS; Function: Counter; Input Type: CMOS; Bits(#): 1; Operating Temperature Range(C): -55 to 125; Type: Binary; ComponentLink1Description: Manufacturer URL; ComponentLink1URL: http://www.ti.com/; ComponentLink2Description: Datasheet; ComponentLink2URL: http://www.ti.com/lit/ds/symlink/cd40103b.pdf; ComponentLink3Description: Package Specification; ComponentLink3URL: http://www.ti.com/lit/ml/msop002a/msop002a.pdf
footprint NS0016A_N (SOIC,16-Leads,Body 10.5x5.6mm,Pitch 1.27mm,IPC Medium Density)
footprint NS0016A_M (SOIC,16-Leads,Body 10.5x5.6mm,Pitch 1.27mm,IPC Low Density)
footprint NS0016A_L (SOIC,16-Leads,Body 10.5x5.6mm,Pitch 1.27mm,IPC High Density)
pins: 1 CLK (in), 2 ~{CLR} (in), 3 ~{CI/CE} (in), 4 J0 (in), 5 J1 (in), 6 J2 (in), 7 J3 (in), 8 VSS (power), 9 ~{APE} (in), 10 J4 (in), 11 J5 (in), 12 J6 (in), 13 J7 (in), 14 ~{CO/ZD} (out), 15 ~{SPE} (in), 16 VDD (power)

## CD40103BPW
designator U?
CMOS 8-Stage Presettable 8-Bit Binary Synchronous Down Counter, PW0016A, TUBE; Generic Part Number: CD40103B; Manufacturer: Texas Instruments; PartNumber: CD40103BPW; VCC(Max)(V): 18; VCC(Min)(V): 3; Inputs: 1; ICC @ Nom Voltage(Max)(mA): 0.03; F @ Nom Voltage(Max)(Mhz): 8; Rating: Catalog; Technology Family: CD4000; Voltage(Nom)(V): 5,10,15; Schmitt Trigger: No; Output Drive (IOL/IOH)(Max)(mA): 1.5/-1.5; tpd @ Nom Voltage(Max)(ns): 260; DatasheetVersion: SCHS095B; PackageReference: PW0016A; Supplier 1: Mouser; Supplier Part Number 1: 595-CD40103BPW; Supplier 2: Digi-Key; Supplier Part Number 2: 296-32857-5-ND; Output Type: CMOS; Function: Counter; Input Type: CMOS; Bits(#): 1; Operating Temperature Range(C): -55 to 125; Type: Binary; Code_JEDEC: MO-153; ComponentLink1Description: Manufacturer URL; ComponentLink1URL: http://www.ti.com/; ComponentLink2Description: Datasheet; ComponentLink2URL: http://www.ti.com/lit/ds/symlink/cd40103b.pdf; ComponentLink3Description: Package Specification; ComponentLink3URL: http://www.ti.com/lit/ml/mpds361/mpds361.pdf
footprint PW0016A_N (SOP, 16-Leads, Body 5.1x4.5mm, Pitch 0.65mm, IPC Medium Density)
footprint PW0016A_M (SOP, 16-Leads, Body 5.1x4.5mm, Pitch 0.65mm, IPC Low Density)
footprint PW0016A_L (SOP, 16-Leads, Body 5.1x4.5mm, Pitch 0.65mm, IPC High Density)
pins: 1 CLK (in), 2 ~{CLR} (in), 3 ~{CI/CE} (in), 4 J0 (in), 5 J1 (in), 6 J2 (in), 7 J3 (in), 8 VSS (power), 9 ~{APE} (in), 10 J4 (in), 11 J5 (in), 12 J6 (in), 13 J7 (in), 14 ~{CO/ZD} (out), 15 ~{SPE} (in), 16 VDD (power)

## CD40110BE
designator U?
CMOS Decade Up-Down Counter/Latch/Display Driver, N0016A, TUBE; Generic Part Number: CD40110B; Manufacturer: Texas Instruments; PartNumber: CD40110BE; VCC(Max)(V): 18; VCC(Min)(V): 3; Inputs: 1; ICC @ Nom Voltage(Max)(mA): 0.03; Bits(#): 7; F @ Nom Voltage(Max)(Mhz): 8; Rating: Catalog; Technology Family: CD4000; Voltage(Nom)(V): 5,10,15; Schmitt Trigger: No; Output Drive (IOL/IOH)(Max)(mA): 1.5/-1.5; tpd @ Nom Voltage(Max)(ns): 720; DatasheetVersion: SCHS100; PackageReference: N0016A; Supplier 1: Mouser; Supplier Part Number 1: 595-CD40110BE; Supplier 2: Digi-Key; Supplier Part Number 2: 296-3506-5-ND; Output Type: CMOS; Function: Counter; Input Type: CMOS; Operating Temperature Range(C): -55 to 125; Type: Decade; Code_JEDEC: MS-001; ComponentLink1Description: Manufacturer URL; ComponentLink1URL: http://www.ti.com/; ComponentLink2Description: Datasheet; ComponentLink2URL: http://www.ti.com/lit/ds/symlink/cd40110b.pdf; ComponentLink3Description: Package Specification; ComponentLink3URL: http://www.ti.com/lit/ml/mpdi002c/mpdi002c.pdf
footprint N0016A (DIP, 16-Leads, Body 19.7x6.6mm, Pitch 2.54mm)
pins: 1 A (out), 2 G (out), 3 F (out), 4 ~{TOGGLE EN} (in), 5 RESET (in), 6 LATCH EN (in), 7 CLK DOWN (in), 8 VSS (power), 9 CLK UP (in), 10 CARRY (out), 11 BORROW (out), 12 E (out), 13 D (out), 14 C (out), 15 B (out), 16 VDD (power)

## CD40117BE
designator U?
Programmable Dual 4-Bit Terminator (20V Rating), N0014A, TUBE; Generic Part Number: CD40117B; Manufacturer: Texas Instruments; PartNumber: CD40117BE; VCC(Max)(V): 18; VCC(Min)(V): 3; Output Type: CMOS; ICC @ Nom Voltage(Max)(mA): 0.015; Bits(#): 4; F @ Nom Voltage(Max)(Mhz): 8; Technology Family: CD4000; Voltage(Nom)(V): 10; Schmitt Trigger: No; Output Drive (IOL/IOH)(Max)(mA): 0.25/-0.25; tpd @ Nom Voltage(Max)(ns): 850; DatasheetVersion: SCHS101C; PackageReference: N0014A; Supplier 1: Mouser; Supplier Part Number 1: 595-CD40117BE; Supplier 2: Digi-Key; Supplier Part Number 2: 296-14244-5-ND; Input Type: CMOS; Operating Temperature Range(C): -55 to 125; Code_JEDEC: MS-001; ComponentLink1Description: Manufacturer URL; ComponentLink1URL: http://www.ti.com/; ComponentLink2Description: Datasheet; ComponentLink2URL: http://www.ti.com/lit/ds/symlink/cd40117b.pdf; ComponentLink3Description: Package Specification; ComponentLink3URL: http://www.ti.com/lit/ml/mpdi002c/mpdi002c.pdf
footprint N0014A (DIP, 14-Leads, Body 19.7x6.6mm, Pitch 2.54mm)
pins: 1 STROBE A (in), 2 STROBE B (in), 3 1A (io), 4 2A (io), 5 3A (io), 6 4A (io), 7 VSS (power), 8 4B (io), 9 3B (io), 10 2B (io), 11 1B (io), 12 DATA B (in), 13 DATA A (in), 14 VDD (power)

## CD40117BMT
designator U?
Programmable Dual 4-Bit Terminator (20V Rating), D0014A, SMALL T&R; Generic Part Number: CD40117B; Manufacturer: Texas Instruments; PartNumber: CD40117BMT; VCC(Max)(V): 18; VCC(Min)(V): 3; Output Type: CMOS; ICC @ Nom Voltage(Max)(mA): 0.015; Bits(#): 4; F @ Nom Voltage(Max)(Mhz): 8; Technology Family: CD4000; Voltage(Nom)(V): 10; Schmitt Trigger: No; Output Drive (IOL/IOH)(Max)(mA): 0.25/-0.25; tpd @ Nom Voltage(Max)(ns): 850; DatasheetVersion: SCHS101C; PackageReference: D0014A; Supplier 1: Mouser; Supplier Part Number 1: 595-CD40117BMT; Supplier 2: Digi-Key; Supplier Part Number 2: CD40117BMT-ND; Input Type: CMOS; Operating Temperature Range(C): -55 to 125; Code_JEDEC: MS-012; ComponentLink1Description: Manufacturer URL; ComponentLink1URL: http://www.ti.com/; ComponentLink2Description: Datasheet; ComponentLink2URL: http://www.ti.com/lit/ds/symlink/cd40117b.pdf; ComponentLink3Description: Package Specification; ComponentLink3URL: http://www.ti.com/lit/ml/mpds177g/mpds177g.pdf
footprint D0014A_N (SOIC, 14-Leads, Body 8.75x4mm, Pitch 1.27mm, IPC Medium Density)
footprint D0014A_M (SOIC, 14-Leads, Body 8.75x4mm, Pitch 1.27mm, IPC Low Density)
footprint D0014A_L (SOIC, 14-Leads, Body 8.75x4mm, Pitch 1.27mm, IPC High Density)
pins: 1 STROBE A (in), 2 STROBE B (in), 3 1A (io), 4 2A (io), 5 3A (io), 6 4A (io), 7 VSS (power), 8 4B (io), 9 3B (io), 10 2B (io), 11 1B (io), 12 DATA B (in), 13 DATA A (in), 14 VDD (power)

## CD40147BE
designator U?
10-Line to 4-Line BCD Priority Encoder, N0016A, TUBE; Generic Part Number: CD40147B; Manufacturer: Texas Instruments; PartNumber: CD40147BE; VCC(Max)(V): 18; VCC(Min)(V): 3; Output Type: CMOS; Function: Encoder/Multiplexer; ICC @ Nom Voltage(Max)(mA): 0.3; Bits(#): 10; F @ Nom Voltage(Max)(Mhz): 8; Configuration: 10：4; Channels(#): 4; Rating: Catalog; Technology Family: CD4000; Voltage(Nom)(V): 5,10,15; Schmitt Trigger: No; Output Drive (IOL/IOH)(Max)(mA): 1.5/-1.5; tpd @ Nom Voltage(Max)(ns): 400; DatasheetVersion: SCHS102C; PackageReference: N0016A; Supplier 1: Mouser; Supplier Part Number 1: 595-CD40147BE; Supplier 2: Digi-Key; Supplier Part Number 2: 296-14247-5-ND; Input Type: CMOS; Operating Temperature Range(C): -55 to 125; Type: Standard; Code_JEDEC: MS-001; ComponentLink1Description: Manufacturer URL; ComponentLink1URL: http://www.ti.com/; ComponentLink2Description: Datasheet; ComponentLink2URL: http://www.ti.com/lit/ds/symlink/cd40147b.pdf; ComponentLink3Description: Package Specification; ComponentLink3URL: http://www.ti.com/lit/ml/mpdi002c/mpdi002c.pdf
footprint N0016A (DIP, 16-Leads, Body 19.7x6.6mm, Pitch 2.54mm)
pins: 1 4 (in), 2 5 (in), 3 6 (in), 4 7 (in), 5 8 (in), 6 C (out), 7 B (out), 8 VSS (power), 9 A (out), 10 9 (in), 11 1 (in), 12 2 (in), 13 3 (in), 14 D (out), 15 0 (in), 16 VDD (power)

## CD40147BM
designator U?
10-Line to 4-Line BCD Priority Encoder, D0016A, TUBE; Generic Part Number: CD40147B; Manufacturer: Texas Instruments; PartNumber: CD40147BM; VCC(Max)(V): 18; VCC(Min)(V): 3; Output Type: CMOS; Function: Encoder/Multiplexer; ICC @ Nom Voltage(Max)(mA): 0.3; Bits(#): 10; F @ Nom Voltage(Max)(Mhz): 8; Configuration: 10：4; Channels(#): 4; Rating: Catalog; Technology Family: CD4000; Voltage(Nom)(V): 5,10,15; Schmitt Trigger: No; Output Drive (IOL/IOH)(Max)(mA): 1.5/-1.5; tpd @ Nom Voltage(Max)(ns): 400; DatasheetVersion: SCHS102C; PackageReference: D0016A; Supplier 1: Mouser; Supplier Part Number 1: 595-CD40147BM; Supplier 2: Digi-Key; Supplier Part Number 2: 296-32864-5-ND; Input Type: CMOS; Operating Temperature Range(C): -55 to 125; Type: Standard; Code_JEDEC: MS-012 variation AC; ComponentLink1Description: Manufacturer URL; ComponentLink1URL: http://www.ti.com/; ComponentLink2Description: Datasheet; ComponentLink2URL: http://www.ti.com/lit/ds/symlink/cd40147b.pdf; ComponentLink3Description: Package Specification; ComponentLink3URL: http://www.ti.com/lit/ml/mpds178g/mpds178g.pdf
footprint D0016A_N (SOIC, 16-Leads, Body 10x4mm, Pitch 1.27mm, IPC Medium Density)
footprint D0016A_M (SOIC, 16-Leads, Body 10x4mm, Pitch 1.27mm, IPC Low Density)
footprint D0016A_L (SOIC, 16-Leads, Body 10x4mm, Pitch 1.27mm, IPC High Density)
pins: 1 4 (in), 2 5 (in), 3 6 (in), 4 7 (in), 5 8 (in), 6 C (out), 7 B (out), 8 VSS (power), 9 A (out), 10 9 (in), 11 1 (in), 12 2 (in), 13 3 (in), 14 D (out), 15 0 (in), 16 VDD (power)

## CD40160BF3A
designator U?
CMOS Synchronous Programmable 4-Bit Decade Counter With Asynchronous Clear, J0016A, TUBE; Generic Part Number: CD40160B; Manufacturer: Texas Instruments; PartNumber: CD40160BF3A; Rating: Military; Technology Family: CD4000; Schmitt Trigger: No; DatasheetVersion: SCHS103C; PackageReference: J0016A; Operating Temperature Range(C): -55 to 125; ComponentLink1Description: Manufacturer URL; ComponentLink1URL: http://www.ti.com/; ComponentLink2Description: Datasheet; ComponentLink2URL: http://www.ti.com/lit/ds/symlink/cd40160b.pdf; ComponentLink3Description: Package Specification; ComponentLink3URL: http://www.ti.com/lit/ml/mcer002d/mcer002d.pdf
footprint J0016A (DIP, 16-Leads, Body 21.35x7.2mm, Pitch 2.54mm)
pins: 1 ~{CLEAR} (in), 2 CLK (in), 3 P1 (in), 4 P2 (in), 5 P3 (in), 6 P4 (in), 7 PE (in), 8 VSS (power), 9 ~{LOAD} (in), 10 TE (in), 11 Q4 (out), 12 Q3 (out), 13 Q2 (out), 14 Q1 (out), 15 CARRY OUT (out), 16 VDD (power)

## CD40161BE
designator U?
CMOS Synchronous Programmable 4-Bit Binary Counter with Asynchronous Clear, N0016A, TUBE; Generic Part Number: CD40161B; Manufacturer: Texas Instruments; PartNumber: CD40161BE; VCC(Max)(V): 18; VCC(Min)(V): 3; Inputs: 1; ICC @ Nom Voltage(Max)(mA): 0.03; Bits(#): 4; F @ Nom Voltage(Max)(Mhz): 8; Rating: Catalog; Technology Family: CD4000; Voltage(Nom)(V): 5,10,15; Schmitt Trigger: No; Output Drive (IOL/IOH)(Max)(mA): 1.5/-1.5; tpd @ Nom Voltage(Max)(ns): 160; DatasheetVersion: SCHS103C; PackageReference: N0016A; Supplier 1: Mouser; Supplier Part Number 1: 595-CD40161BE; Supplier 2: Digi-Key; Supplier Part Number 2: 296-2170-5-ND; Output Type: CMOS; Function: Counter; Input Type: CMOS; Operating Temperature Range(C): -55 to 125; Type: Binary; Code_JEDEC: MS-001; ComponentLink1Description: Manufacturer URL; ComponentLink1URL: http://www.ti.com/; ComponentLink2Description: Datasheet; ComponentLink2URL: http://www.ti.com/lit/ds/symlink/cd40161b.pdf; ComponentLink3Description: Package Specification; ComponentLink3URL: http://www.ti.com/lit/ml/mpdi002c/mpdi002c.pdf
footprint N0016A (DIP, 16-Leads, Body 19.7x6.6mm, Pitch 2.54mm)
pins: 1 ~{CLEAR} (in), 2 CLK (in), 3 P1 (in), 4 P2 (in), 5 P3 (in), 6 P4 (in), 7 PE (in), 8 VSS (power), 9 ~{LOAD} (in), 10 TE (in), 11 Q4 (out), 12 Q3 (out), 13 Q2 (out), 14 Q1 (out), 15 CARRY OUT (out), 16 VDD (power)

## CD40161BF3A
designator U?
CMOS Synchronous Programmable 4-Bit Binary Counter with Asynchronous Clear, J0016A, TUBE; Generic Part Number: CD40161B-MIL; Manufacturer: Texas Instruments; PartNumber: CD40161BF3A; VCC(Max)(V): 18; VCC(Min)(V): 3; Inputs: 1; ICC @ Nom Voltage(Max)(mA): 0.03; Bits(#): 4; F @ Nom Voltage(Max)(Mhz): 8; Rating: Military; Technology Family: CD4000; Voltage(Nom)(V): 10; Schmitt Trigger: No; Output Drive (IOL/IOH)(Max)(mA): 1.5/-1.5; tpd @ Nom Voltage(Max)(ns): 160; DatasheetVersion: SCHS103C; PackageReference: J0016A; Output Type: CMOS; Function: Counter; Input Type: CMOS; Operating Temperature Range(C): -55 to 125; Type: Binary; ComponentLink1Description: Manufacturer URL; ComponentLink1URL: http://www.ti.com/; ComponentLink2Description: Datasheet; ComponentLink2URL: http://www.ti.com/lit/ds/symlink/cd40161b-mil.pdf; ComponentLink3Description: Package Specification; ComponentLink3URL: http://www.ti.com/lit/ml/mcer002d/mcer002d.pdf
footprint J0016A (DIP, 16-Leads, Body 21.35x7.2mm, Pitch 2.54mm)
pins: 1 ~{CLEAR} (in), 2 CLK (in), 3 P1 (in), 4 P2 (in), 5 P3 (in), 6 P4 (in), 7 PE (in), 8 VSS (power), 9 ~{LOAD} (in), 10 TE (in), 11 Q4 (out), 12 Q3 (out), 13 Q2 (out), 14 Q1 (out), 15 CARRY OUT (out), 16 VDD (power)

## CD40161BNSR
designator U?
CMOS Synchronous Programmable 4-Bit Binary Counter with Asynchronous Clear, NS0016A, LARGE T&R; Generic Part Number: CD40161B; Manufacturer: Texas Instruments; PartNumber: CD40161BNSR; VCC(Max)(V): 18; VCC(Min)(V): 3; Inputs: 1; ICC @ Nom Voltage(Max)(mA): 0.03; Bits(#): 4; F @ Nom Voltage(Max)(Mhz): 8; Rating: Catalog; Technology Family: CD4000; Voltage(Nom)(V): 5,10,15; Schmitt Trigger: No; Output Drive (IOL/IOH)(Max)(mA): 1.5/-1.5; tpd @ Nom Voltage(Max)(ns): 160; DatasheetVersion: SCHS103C; PackageReference: NS0016A; Supplier 1: Mouser; Supplier Part Number 1: 595-CD40161BNSR; Supplier 2: Digi-Key; Supplier Part Number 2: 296-14091-2-ND; Supplier 3: Digi-Key; Supplier Part Number 3: 296-14091-1-ND; Supplier 4: Digi-Key; Supplier Part Number 4: 296-14091-6-ND; Output Type: CMOS; Function: Counter; Input Type: CMOS; Operating Temperature Range(C): -55 to 125; Type: Binary; ComponentLink1Description: Manufacturer URL; ComponentLink1URL: http://www.ti.com/; ComponentLink2Description: Datasheet; ComponentLink2URL: http://www.ti.com/lit/ds/symlink/cd40161b.pdf; ComponentLink3Description: Package Specification; ComponentLink3URL: http://www.ti.com/lit/ml/msop002a/msop002a.pdf
footprint NS0016A_N (SOIC,16-Leads,Body 10.5x5.6mm,Pitch 1.27mm,IPC Medium Density)
footprint NS0016A_M (SOIC,16-Leads,Body 10.5x5.6mm,Pitch 1.27mm,IPC Low Density)
footprint NS0016A_L (SOIC,16-Leads,Body 10.5x5.6mm,Pitch 1.27mm,IPC High Density)
pins: 1 ~{CLEAR} (in), 2 CLK (in), 3 P1 (in), 4 P2 (in), 5 P3 (in), 6 P4 (in), 7 PE (in), 8 VSS (power), 9 ~{LOAD} (in), 10 TE (in), 11 Q4 (out), 12 Q3 (out), 13 Q2 (out), 14 Q1 (out), 15 CARRY OUT (out), 16 VDD (power)

## CD40161BPWR
designator U?
CMOS Synchronous Programmable 4-Bit Binary Counter with Asynchronous Clear, PW0016A, LARGE T&R; Generic Part Number: CD40161B; Manufacturer: Texas Instruments; PartNumber: CD40161BPWR; VCC(Max)(V): 18; VCC(Min)(V): 3; Inputs: 1; ICC @ Nom Voltage(Max)(mA): 0.03; Bits(#): 4; F @ Nom Voltage(Max)(Mhz): 8; Rating: Catalog; Technology Family: CD4000; Voltage(Nom)(V): 5,10,15; Schmitt Trigger: No; Output Drive (IOL/IOH)(Max)(mA): 1.5/-1.5; tpd @ Nom Voltage(Max)(ns): 160; DatasheetVersion: SCHS103C; PackageReference: PW0016A; Supplier 1: Mouser; Supplier Part Number 1: 595-CD40161BPWR; Supplier 2: Digi-Key; Supplier Part Number 2: 296-14249-2-ND; Supplier 3: Digi-Key; Supplier Part Number 3: 296-14249-1-ND; Supplier 4: Digi-Key; Supplier Part Number 4: 296-14249-6-ND; Output Type: CMOS; Function: Counter; Input Type: CMOS; Operating Temperature Range(C): -55 to 125; Type: Binary; Code_JEDEC: MO-153; ComponentLink1Description: Manufacturer URL; ComponentLink1URL: http://www.ti.com/; ComponentLink2Description: Datasheet; ComponentLink2URL: http://www.ti.com/lit/ds/symlink/cd40161b.pdf; ComponentLink3Description: Package Specification; ComponentLink3URL: http://www.ti.com/lit/ml/mpds361/mpds361.pdf
footprint PW0016A_N (SOP, 16-Leads, Body 5.1x4.5mm, Pitch 0.65mm, IPC Medium Density)
footprint PW0016A_M (SOP, 16-Leads, Body 5.1x4.5mm, Pitch 0.65mm, IPC Low Density)
footprint PW0016A_L (SOP, 16-Leads, Body 5.1x4.5mm, Pitch 0.65mm, IPC High Density)
pins: 1 ~{CLEAR} (in), 2 CLK (in), 3 P1 (in), 4 P2 (in), 5 P3 (in), 6 P4 (in), 7 PE (in), 8 VSS (power), 9 ~{LOAD} (in), 10 TE (in), 11 Q4 (out), 12 Q3 (out), 13 Q2 (out), 14 Q1 (out), 15 CARRY OUT (out), 16 VDD (power)

## CD40192BE
designator U?
CMOS Presettable BCD Up/Down Counter (Dual Clock with Reset), N0016A, TUBE; Generic Part Number: CD40192B; Manufacturer: Texas Instruments; PartNumber: CD40192BE; VCC(Max)(V): 18; VCC(Min)(V): 3; Inputs: 1; ICC @ Nom Voltage(Max)(mA): 0.03; Bits(#): 4; F @ Nom Voltage(Max)(Mhz): 8; Rating: Catalog; Technology Family: CD4000; Voltage(Nom)(V): 5,10,15; Schmitt Trigger: No; Output Drive (IOL/IOH)(Max)(mA): 1.5/-1.5; tpd @ Nom Voltage(Max)(ns): 240; DatasheetVersion: SCHS106B; PackageReference: N0016A; Supplier 1: Mouser; Supplier Part Number 1: 595-CD40192BE; Supplier 2: Digi-Key; Supplier Part Number 2: 296-3509-5-ND; Output Type: CMOS; Function: Counter; Input Type: CMOS; Operating Temperature Range(C): -55 to 125; Type: Other; Code_JEDEC: MS-001; ComponentLink1Description: Manufacturer URL; ComponentLink1URL: http://www.ti.com/; ComponentLink2Description: Datasheet; ComponentLink2URL: http://www.ti.com/lit/ds/symlink/cd40192b.pdf; ComponentLink3Description: Package Specification; ComponentLink3URL: http://www.ti.com/lit/ml/mpdi002c/mpdi002c.pdf
footprint N0016A (DIP, 16-Leads, Body 19.7x6.6mm, Pitch 2.54mm)
pins: 1 J2 (in), 2 Q2 (out), 3 Q1 (out), 4 CLK DOWN (in), 5 CLK UP (in), 6 Q3 (out), 7 Q4 (out), 8 VSS (power), 9 J4 (in), 10 J3 (in), 11 ~{PRESET EN} (in), 12 ~{CARRY} (out), 13 ~{BORROW} (out), 14 RESET (in), 15 J1 (in), 16 VDD (power)

## CD40192BF
designator U?
CMOS Presettable BCD Up/Down Counter (Dual Clock with Reset), J0016A, TUBE; Generic Part Number: CD40192B-MIL; Manufacturer: Texas Instruments; PartNumber: CD40192BF; VCC(Max)(V): 18; VCC(Min)(V): 3; Inputs: 1; ICC @ Nom Voltage(Max)(mA): 0.03; Bits(#): 4; F @ Nom Voltage(Max)(Mhz): 8; Rating: Military; Technology Family: CD4000; Voltage(Nom)(V): 10; Schmitt Trigger: No; Output Drive (IOL/IOH)(Max)(mA): 1.5/-1.5; tpd @ Nom Voltage(Max)(ns): 240; DatasheetVersion: SCHS106B; PackageReference: J0016A; Output Type: CMOS; Function: Counter; Input Type: CMOS; Operating Temperature Range(C): -55 to 125; Type: Other; ComponentLink1Description: Manufacturer URL; ComponentLink1URL: http://www.ti.com/; ComponentLink2Description: Datasheet; ComponentLink2URL: http://www.ti.com/lit/ds/symlink/cd40192b-mil.pdf; ComponentLink3Description: Package Specification; ComponentLink3URL: http://www.ti.com/lit/ml/mcer002d/mcer002d.pdf
footprint J0016A (DIP, 16-Leads, Body 21.35x7.2mm, Pitch 2.54mm)
pins: 1 J2 (in), 2 Q2 (out), 3 Q1 (out), 4 CLK DOWN (in), 5 CLK UP (in), 6 Q3 (out), 7 Q4 (out), 8 VSS (power), 9 J4 (in), 10 J3 (in), 11 ~{PRESET EN} (in), 12 ~{CARRY} (out), 13 ~{BORROW} (out), 14 RESET (in), 15 J1 (in), 16 VDD (power)

## CD40192BF3A
designator U?
CMOS Presettable BCD Up/Down Counter (Dual Clock with Reset), J0016A, TUBE; Generic Part Number: CD40192B-MIL; Manufacturer: Texas Instruments; PartNumber: CD40192BF3A; VCC(Max)(V): 18; VCC(Min)(V): 3; Inputs: 1; ICC @ Nom Voltage(Max)(mA): 0.03; Bits(#): 4; F @ Nom Voltage(Max)(Mhz): 8; Rating: Military; Technology Family: CD4000; Voltage(Nom)(V): 10; Schmitt Trigger: No; Output Drive (IOL/IOH)(Max)(mA): 1.5/-1.5; tpd @ Nom Voltage(Max)(ns): 240; DatasheetVersion: SCHS106B; PackageReference: J0016A; Output Type: CMOS; Function: Counter; Input Type: CMOS; Operating Temperature Range(C): -55 to 125; Type: Other; ComponentLink1Description: Manufacturer URL; ComponentLink1URL: http://www.ti.com/; ComponentLink2Description: Datasheet; ComponentLink2URL: http://www.ti.com/lit/ds/symlink/cd40192b-mil.pdf; ComponentLink3Description: Package Specification; ComponentLink3URL: http://www.ti.com/lit/ml/mcer002d/mcer002d.pdf
footprint J0016A (DIP, 16-Leads, Body 21.35x7.2mm, Pitch 2.54mm)
pins: 1 J2 (in), 2 Q2 (out), 3 Q1 (out), 4 CLK DOWN (in), 5 CLK UP (in), 6 Q3 (out), 7 Q4 (out), 8 VSS (power), 9 J4 (in), 10 J3 (in), 11 ~{PRESET EN} (in), 12 ~{CARRY} (out), 13 ~{BORROW} (out), 14 RESET (in), 15 J1 (in), 16 VDD (power)